# Altium footprint library SOP28.PcbLib: 1 footprints
Each footprint in its own frame and in the unit in brackets; x right, y up, seen from the top. Pads: shape width x height; smd on the part's side, far side on the other; paste and mask are expansions set on the pad; w line width, h text height; cw(c..) or ccw(c..) is an arc to the next point about the centre after c.
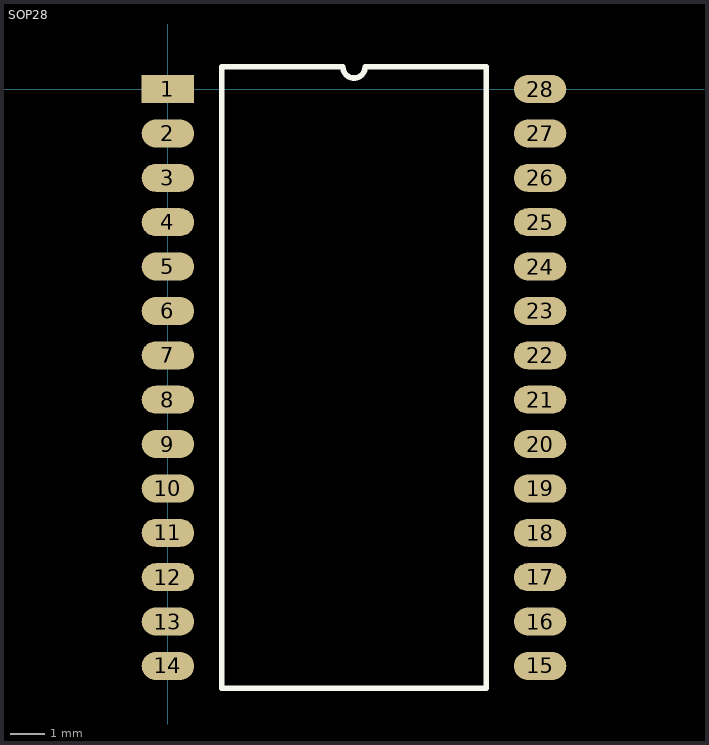
[diagram p0: the footprint, top view; thin cyan lines are the x and y axes]

## SOP28 [mm]
pads (28):
  rect 1.5x0.8 smd: 1(0,0)
  oval 1.5x0.8 smd: 2(0,-1.27) 3(0,-2.54) 4(0,-3.81) 5(0,-5.08) 6(0,-6.35) 7(0,-7.62) 8(0,-8.89) 9(0,-10.16) 10(0,-11.43) 11(0,-12.7) 12(0,-13.97) 13(0,-15.24) 14(0,-16.51) 15(10.65,-16.51) 16(10.65,-15.24) 17(10.65,-13.97) 18(10.65,-12.7) 19(10.65,-11.43) 20(10.65,-10.16) 21(10.65,-8.89) 22(10.65,-7.62) 23(10.65,-6.35) 24(10.65,-5.08) 25(10.65,-3.81) 26(10.65,-2.54) 27(10.65,-1.27) 28(10.65,0)
Top Overlay:
  lines w0.16: 1.545,-17.145 1.545,0.635 5.007,0.635 ccw(c5.325,0.635) 5.642,0.635 9.105,0.635 9.105,-17.145 1.545,-17.145
3D body "User Library-SOIC-28-300.STEP": height 2.57, standoff -0.03, extent 0.034,-17.338 10.634,0.762